# Altium footprint library ESP32.PcbLib: 1 footprints
Each footprint in its own frame and in the unit in brackets; x right, y up, seen from the top. Pads: shape width x height; smd on the part's side, far side on the other; paste and mask are expansions set on the pad; w line width, h text height; cw(c..) or ccw(c..) is an arc to the next point about the centre after c.
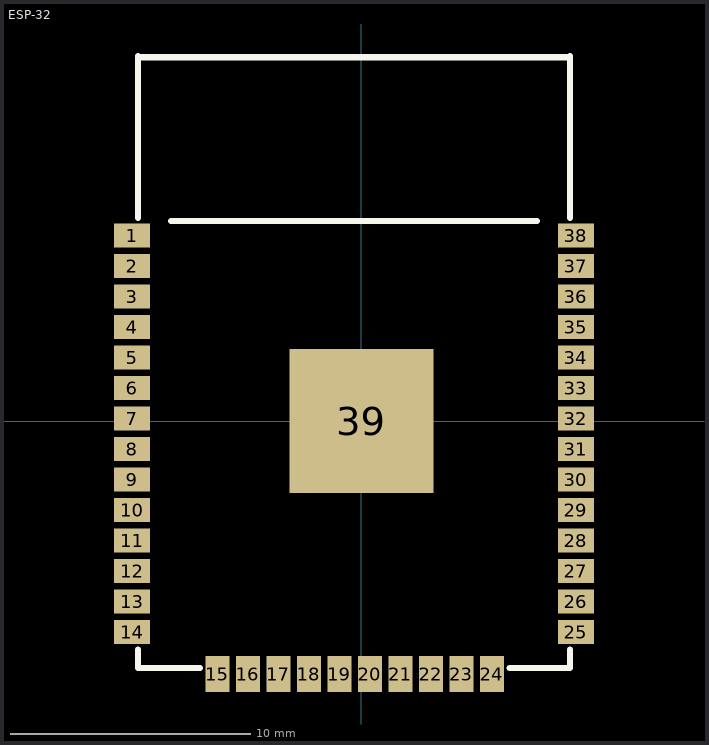
[diagram p0: the footprint, top view; thin cyan lines are the x and y axes]

## ESP-32 [mil]
pads (39):
  rect 59.1x39.4 smd: 1(-376,304) 2(-376,254) 3(-376,204) 4(-376,154) 5(-376,104) 6(-376,54) 7(-376,4) 8(-376,-46) 9(-376,-96) 10(-376,-146) 11(-376,-196) 12(-376,-246) 13(-376,-296) 14(-376,-346) 25(352,-346) 26(352,-296) 27(352,-246) 28(352,-196) 29(352,-146) 30(352,-96) 31(352,-46) 32(352,4) 33(352,54) 34(352,104) 35(352,154) 36(352,204) 37(352,254) 38(352,304)
  rect 39.4x59.1 smd: 15(-236,-415) 16(-186,-415) 17(-136,-415) 18(-86,-415) 19(-36,-415) 20(14,-415) 21(64,-415) 22(114,-415) 23(164,-415) 24(214,-415)
  rect 236.2x236.2 smd: 39(0,0)
Top Overlay:
  lines w10: -366,-374.8 -366,-405 -264.8,-405 ; -366,332.8 -366,599 ; -366,596.67 342,596.67 ; -312,328 288,328 ; 242.8,-405 342,-405 342,-374.8 ; 342,332.8 342,599
3D body "ESP-32 .step": height 102.76, standoff -3.94, extent -362.36,-400 342.37,600